# EAGLE library part NATIONAL-SEMICONDUCTOR_LM2596 (library USSTCM)
SIMPLE SWITCHER® Power Converter 150 kHz 3A Step-Down Voltage Regulator Source: http://www.national.com/ds/LM/LM2596.pdf
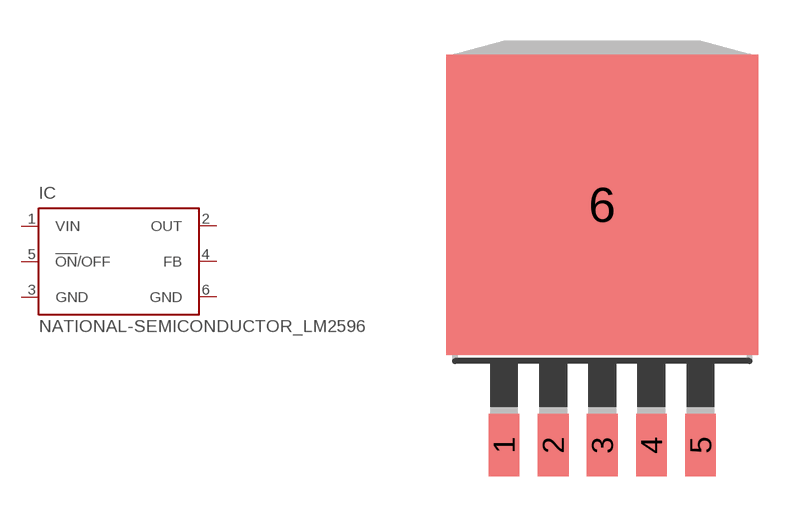
[diagram p2: symbol with the pads of NATIONAL-SEMICONDUCTOR_TO263-5; footprint NATIONAL-SEMICONDUCTOR_TO263-5]

Designator prefix IC

## NATIONAL-SEMICONDUCTOR_LM2596S (MPN: LM2596T-ADJ/LF02; OC_FARNELL: 9494162; OC_NEWARK: 65K5910)  [NATIONAL-SEMICONDUCTOR_TO263-5]
1  VIN  in
2  OUT  out
3  GND  pwr
4  FB  in
5  !ON!/OFF  in
6  GND  pwr

## Footprint NATIONAL-SEMICONDUCTOR_TO263-5 (pad centres in mm)
TO-263
smd 1.067 x 2.159: 1 -3.404,-5.791; 2 -1.702,-5.791; 3 0,-5.791; 4 1.702,-5.791; 5 3.404,-5.791
smd 10.8 x 10.41: 6 0,2.54